# EAGLE library part WE-RJ45_7497011611A (library Wurth_Signal & Communications_WE-RJ45_LAN)
WE-RJ45 LAN Transformer Characteristics RJ45 Connector with integrated transformer / common mode choke Power over Ethernet up to 50 Watt and speeds up to 10 Gbit/s Available in SMD, THT and THT with USB Compliant with standards: IEEE 802.3u, IEEE 802.3ab, IEEE 802.3af, IEEE 802.3at, IEEE 802.3an and upcoming IEE 802.3bt Applications Suitable for industrial temperatures from –40 °C up to +85 °C Compatible to Industrial Ethernet systems like EtherCAT or Profinet Compliant with most IC’s for Ethernet applications such as Microchip, Texas Instruments, Broadcom, Linear Technology Hubs, Routers, Switches, IP cameras, IoT applications <https://www.we-online.com/components/media/o35731v209%20Family-WE-RJ45LAN-7499xxxxxx.jpg> Details see: www.we-online.com/components/products/WE-LAN-RJ45 <www.we-online.com/catalog/WE-LAN-RJ45/?utm_source=eagle_model&utm_medium=description_link&utm_campaign=eisos_eagle> Updated by Ella Wu 2020-11-18 2020 (C) Wurth Elektronik
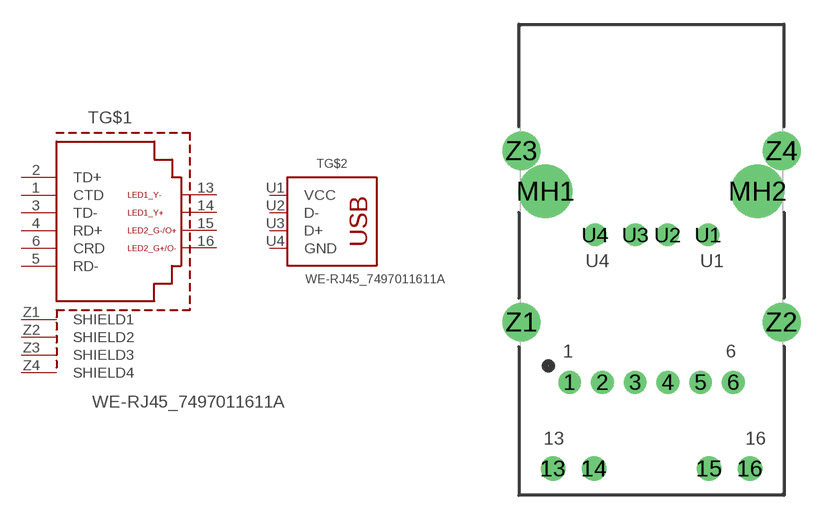
[diagram p34: symbol with the pads of 7497011611A; footprint 7497011611A]

Designator prefix T; gates G$1=7497011611A G$2=USB2.0

## WE-RJ45_7497011611A (DATA-RATE: 10/100 Base-T; DATASHEET-URL: https://www.we-online.com/redexpert/spec/7497011611A?ae; LED: green/orange-yellow; MOUNT: THT; PART-NUMBER: 7497011611A; POE: non-PoE; PORTS: 1; USB: USB 2.0; VALUE: 7497011611A)  [7497011611A]
1  G$1:CTD  pas
2  G$1:TD+  pas
3  G$1:TD-  pas
4  G$1:RD+  pas
5  G$1:RD-  pas
6  G$1:CRD  pas
13  G$1:LED1_Y-  pas
14  G$1:LED1_Y+  pas
15  G$1:LED2_G-/O+  pas
16  G$1:LED2_G+/O-  pas
U1  G$2:VCC  pas
U2  G$2:D-  pas
U3  G$2:D+  pas
U4  G$2:GND  pas
Z1  G$1:SHIELD1  pas
Z2  G$1:SHIELD2  pas
Z3  G$1:SHIELD3  pas
Z4  G$1:SHIELD4  pas

## Footprint 7497011611A (pad centres in mm)
WE-RJ45 LAN Transformer 10/100 Base-T
drill 0.9: 1 -5.07,-3.73; 2 -3.042,-3.73; 3 -1.014,-3.73; 4 1.014,-3.73; 5 3.042,-3.73; 6 5.07,-3.73; U1 3.5,5.41; U2 1,5.41; U3 -1,5.41; U4 -3.5,5.41
drill 1.02: 13 -6.1,-9.08; 14 -3.56,-9.08; 15 3.56,-9.08; 16 6.1,-9.08
drill 2.31: MH1 -6.57,8.11; MH2 6.57,8.11
drill 1.57: Z1 -8.06,0; Z2 8.06,0; Z3 -8.06,10.62; Z4 8.06,10.62